# EAGLE library part GRPB252VWQP (library con-sullins-grpb)
HEADER
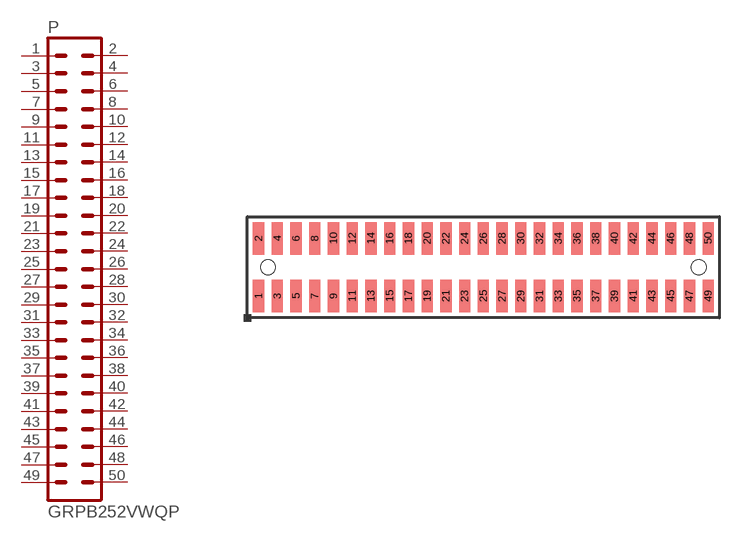
[diagram p22: symbol with the pads of GRPB252VWQP; footprint GRPB252VWQP]

Designator prefix P

## GRPB252VWQP  [GRPB252VWQP]
1  1  pas
2  2  pas
3  3  pas
4  4  pas
5  5  pas
6  6  pas
7  7  pas
8  8  pas
9  9  pas
10  10  pas
11  11  pas
12  12  pas
13  13  pas
14  14  pas
15  15  pas
16  16  pas
17  17  pas
18  18  pas
19  19  pas
20  20  pas
21  21  pas
22  22  pas
23  23  pas
24  24  pas
25  25  pas
26  26  pas
27  27  pas
28  28  pas
29  29  pas
30  30  pas
31  31  pas
32  32  pas
33  33  pas
34  34  pas
35  35  pas
36  36  pas
37  37  pas
38  38  pas
39  39  pas
40  40  pas
41  41  pas
42  42  pas
43  43  pas
44  44  pas
45  45  pas
46  46  pas
47  47  pas
48  48  pas
49  49  pas
50  50  pas

## Footprint GRPB252VWQP (pad centres in mm)
HEADER
smd 0.762 x 2.21: 1 -15.24,-1.956; 2 -15.24,1.956; 3 -13.97,-1.956; 4 -13.97,1.956; 5 -12.7,-1.956; 6 -12.7,1.956; 7 -11.43,-1.956; 8 -11.43,1.956; 9 -10.16,-1.956; 10 -10.16,1.956; 11 -8.89,-1.956; 12 -8.89,1.956; 13 -7.62,-1.956; 14 -7.62,1.956; 15 -6.35,-1.956; 16 -6.35,1.956; 17 -5.08,-1.956; 18 -5.08,1.956; 19 -3.81,-1.956; 20 -3.81,1.956; 21 -2.54,-1.956; 22 -2.54,1.956; 23 -1.27,-1.956; 24 -1.27,1.956; 25 0,-1.956; 26 0,1.956; 27 1.27,-1.956; 28 1.27,1.956; 29 2.54,-1.956; 30 2.54,1.956; 31 3.81,-1.956; 32 3.81,1.956; 33 5.08,-1.956; 34 5.08,1.956; 35 6.35,-1.956; 36 6.35,1.956; 37 7.62,-1.956; 38 7.62,1.956; 39 8.89,-1.956; 40 8.89,1.956; 41 10.16,-1.956; 42 10.16,1.956; 43 11.43,-1.956; 44 11.43,1.956; 45 12.7,-1.956; 46 12.7,1.956; 47 13.97,-1.956; 48 13.97,1.956; 49 15.24,-1.956; 50 15.24,1.956
hole 1 at -14.605,0
hole 1 at 14.605,0